# Altium schematic symbol library USB2RS485.SchLib: 5 symbols
Pins are listed as number, name and electrical type; pins without a type are passive.

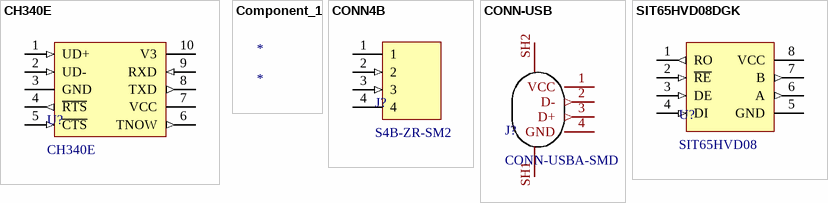
[diagram p0: symbols CH340E to SIT65HVD08DGK]

## CH340E
designator U?
footprint MSOP10
pins: 1 UD+ (in), 2 UD- (in), 3 GND (power), 4 ~{RTS} (out), 5 ~{CTS} (in), 6 TNOW (out), 7 VCC (power), 8 TXD (out), 9 RXD (in), 10 V3 (power)

## Component_1
designator *

## CONN4B
designator J?, comment S4B-ZR-SM2
footprint SM2
pins: 1 (power), 2 (in), 3 (in), 4 (power)

## CONN-USB
designator J?, comment CONN-USBA-SMD
footprint USB-A-SMD_AF
pins: 1 VCC (power), 2 D- (out), 3 D+ (out), 4 GND (power), SH1, SH2

## SIT65HVD08DGK
designator U?, comment SIT65HVD08
footprint MSOP8
pins: 1 RO (out), 2 ~{RE} (in), 3 DE (in), 4 DI (in), 5 GND (power), 6 A (out), 7 B (out), 8 VCC (power)